# Altium schematic symbol library transistors.SchLib: 3 symbols
Pins are listed as number, name and electrical type; pins without a type are passive.

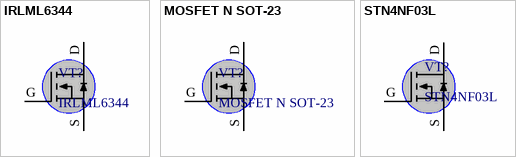
[diagram p0: symbols IRLML6344 to STN4NF03L]

## IRLML6344
designator VT?
MOSFET N SOT-23
footprint SOT-23 (IRLML6344)
footprint SOT-23_mini (IRLML6344)
pins: D, G, S

## MOSFET N SOT-23
designator VT?
pins: D, G, S

## STN4NF03L
designator VT?
MOSFET N SOT-223
footprint SOT-223 (LM1117); pin to pad D>2 G>1 S>3
pins: D, G, S